# EAGLE library part DM1B-DSF-PEJ (library HRS_DM1B-DSF-PEJ)
SD Card Connector Hersteller: HRS Bez.: DM1B-DSF-PEJ RS-Bestl. Nr.: 685-0788
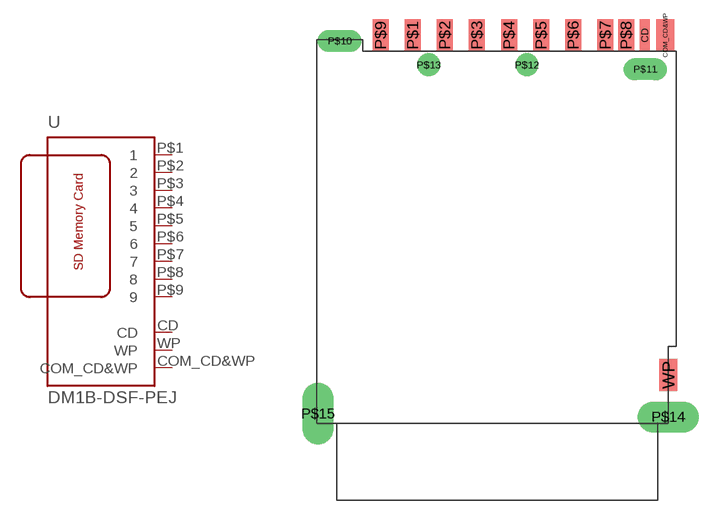
[diagram p0: symbol with the pads of DM1B-DSF-PEJ; footprint DM1B-DSF-PEJ]

Designator prefix -

## DM1B-DSF-PEJ  [DM1B-DSF-PEJ]
CD  CD  pas
COM_CD&WP  COM_CD&WP  pas
P$1  1  pas
P$2  2  pas
P$3  3  pas
P$4  4  pas
P$5  5  pas
P$6  6  pas
P$7  7  pas
P$8  8  pas
P$9  9  pas
WP  WP  pas

## Footprint DM1B-DSF-PEJ (pad centres in mm)
smd 0.8 x 2.5: CD 11.2,1.25
smd 1.4 x 2.5: COM_CD&WP 12.8,1.25; WP 13.03,-25.23
smd 1.25 x 2.5: P$1 -6.875,1.25; P$2 -4.375,1.25; P$3 -1.875,1.25; P$4 0.625,1.25; P$5 3.125,1.25; P$6 5.625,1.25; P$7 8.125,1.25; P$8 9.75,1.25; P$9 -9.375,1.25
drill 0.8 pad 1.7 long: P$10 -12.57,0.8; P$11 11.23,-1.4
drill 0.8 pad 1.778 round: P$12 2.03,-1.05; P$13 -5.62,-1.05
drill 0.8 pad 2.4 long: P$14 13.03,-28.5; P$15 -14.25,-28.25